# Altium footprint library NEW_PCB_2022-01-13.PcbLib: 1 footprints
Each footprint in its own frame and in the unit in brackets; x right, y up, seen from the top. Pads: shape width x height; smd on the part's side, far side on the other; paste and mask are expansions set on the pad; w line width, h text height; cw(c..) or ccw(c..) is an arc to the next point about the centre after c.
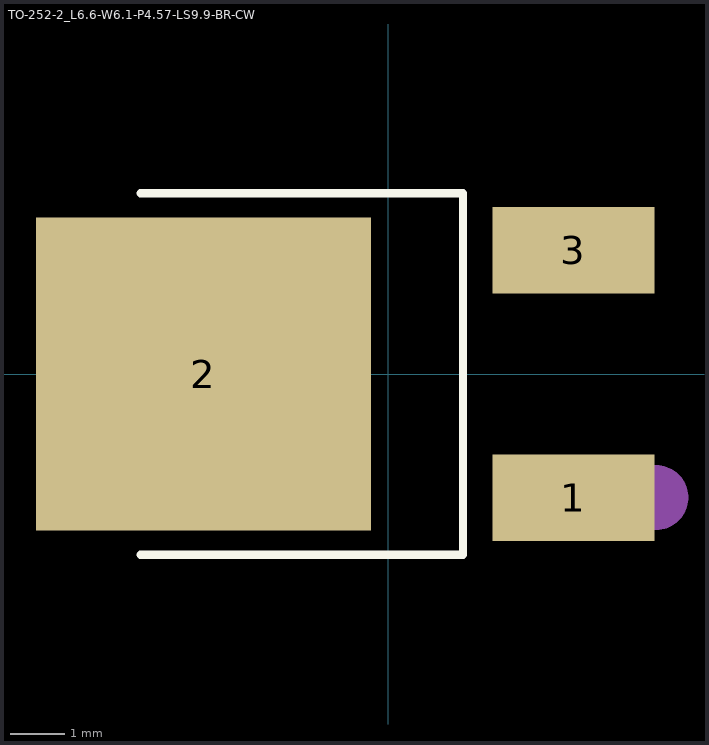
[diagram p0: the footprint, top view; thin cyan lines are the x and y axes]

## TO-252-2_L6.6-W6.1-P4.57-LS9.9-BR-CW [mm]
pads (3):
  rect 3x1.6 smd: 1(3.424,-2.29) 3(3.424,2.29)
  rect 6.2x5.8 smd: 2(-3.424,0)
Top Overlay:
  lines w0.152: -4.585,-3.346 1.383,-3.346 1.383,3.346 -4.585,3.346
Mechanical 15:
  circle w0.6: c4.953,-2.286 r0.3